# EAGLE library part 737-558 (library con-wago_737)
Serie 737, Dreistock-Klemmenleiste für Leiterplatten Lötstifte für Stockwerk 2 um das 1/2 Rastermaß versetzt / Series 737, Triple-deck PCB terminal strip solder pins for deck 2 staggered by half the pin spacing Polzahl / Pole No.: 8 Rastermaß / Pitch: 7.5 mm Bemessungsspannung / Rated Voltage: 630 V Nennstrom / Nominal Current: 21 A Leiterquerschnitt / Conductor Size: 0.08 - 2.5 mm² Anschlusstechnik / Connection Technology: CAGE CLAMP® Lötstiftlänge: / Solder Pin Length: 4 mm Leitereinführung (zur Platine) / Conductor entry angle (to PCB): 45 ° Farbe / Color: grau / gray Stand: 01.01.2012. Die jeweils aktuellen Daten zu diesem Artikel finden Sie in unserem Produktkatalog, den Sie unter www.wago.com einsehen können. As of: 01/01/2012. Please find the newest data for this article in our product catalogue, which can be viewed under www.wago.com.
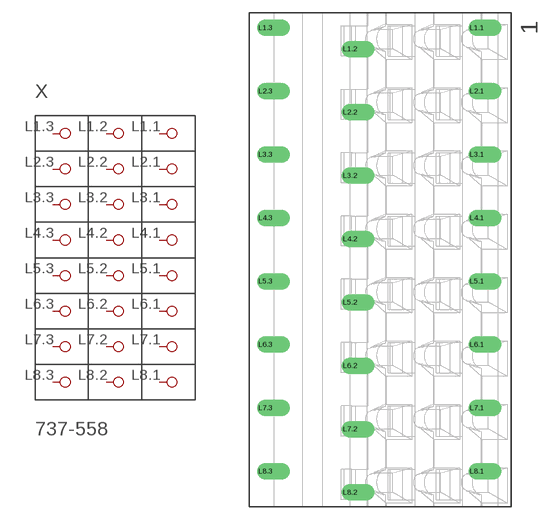
[diagram p27: symbol with the pads of P-737-558; footprint P-737-558]

Designator prefix X

## 737-558  [P-737-558]
L1.1  P1.1
L1.2  P1.2
L1.3  P1.3
L2.1  P2.1
L2.2  P2.2
L2.3  P2.3
L3.1  P3.1
L3.2  P3.2
L3.3  P3.3
L4.1  P4.1
L4.2  P4.2
L4.3  P4.3
L5.1  P5.1
L5.2  P5.2
L5.3  P5.3
L6.1  P6.1
L6.2  P6.2
L6.3  P6.3
L7.1  P7.1
L7.2  P7.2
L7.3  P7.3
L8.1  P8.1
L8.2  P8.2
L8.3  P8.3

## Footprint P-737-558 (pad centres in mm)
drill 1.3 offset: L1.1 11.4,27.45; L1.2 -3.6,24.95; L1.3 -13.6,27.45; L2.1 11.4,19.95; L2.2 -3.6,17.45; L2.3 -13.6,19.95; L3.1 11.4,12.45; L3.2 -3.6,9.95; L3.3 -13.6,12.45; L4.1 11.4,4.95; L4.2 -3.6,2.45; L4.3 -13.6,4.95; L5.1 11.4,-2.55; L5.2 -3.6,-5.05; L5.3 -13.6,-2.55; L6.1 11.4,-10.05; L6.2 -3.6,-12.55; L6.3 -13.6,-10.05; L7.1 11.4,-17.55; L7.2 -3.6,-20.05; L7.3 -13.6,-17.55; L8.1 11.4,-25.05; L8.2 -3.6,-27.55; L8.3 -13.6,-25.05